# EAGLE library part DSP_PORT (library F030NG)
D-Subminiatur Connector Source: Electronioc Interconnects European Edition 1998
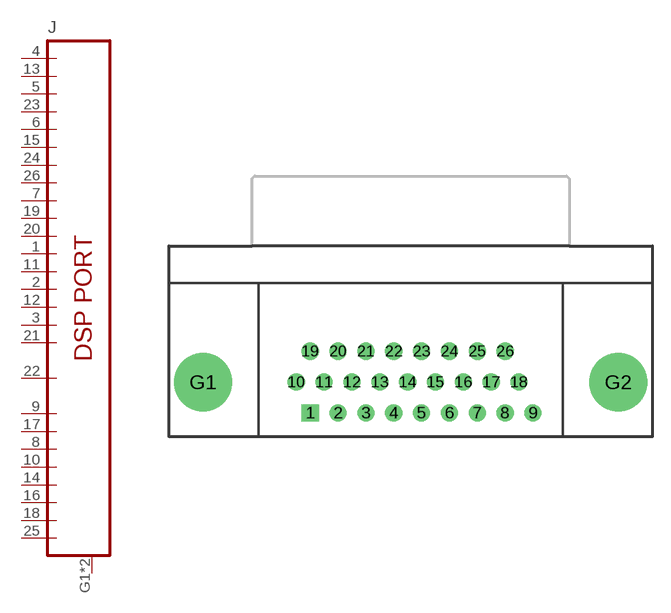
[diagram p17: symbol with the pads of DB26F; footprint DB26F]

Designator prefix J

## DSP_PORT-DB26F  [DB26F]
1  1  pas
2  2  pas
3  3  pas
4  4  pas
5  5  pas
6  6  pas
7  7  pas
8  8  pas
9  9  pas
10  10  pas
11  11  pas
12  12  pas
13  13  pas
14  14  pas
15  15  pas
16  16  pas
17  17  pas
18  18  pas
19  19  pas
20  20  pas
21  21  pas
22  22  pas
23  23  pas
24  24  pas
25  25  pas
26  26  pas
G1  G2  pas
G2  G2  pas

## Footprint DB26F (pad centres in mm)
THOMAS&BETTS H5M09RA29A
drill 0.9 square: 1 -8.265,-2.54
drill 0.9: 2 -5.975,-2.54; 3 -3.685,-2.54; 4 -1.395,-2.54; 5 0.895,-2.54; 6 3.185,-2.54; 7 5.475,-2.54; 8 7.765,-2.54; 9 10.055,-2.54; 10 -9.41,0; 11 -7.12,0; 12 -4.83,0; 13 -2.54,0; 14 -0.25,0; 15 2.04,0; 16 4.33,0; 17 6.62,0; 18 8.91,0; 19 -8.265,2.54; 20 -5.975,2.54; 21 -3.685,2.54; 22 -1.395,2.54; 23 0.895,2.54; 24 3.185,2.54; 25 5.475,2.54; 26 7.765,2.54
drill 3.4 pad 4.8: G1 -17.08,0; G2 17.08,0